# Altium schematic symbol library 08053C472K4Z2A.SchLib: 2 symbols
Pins are listed as number, name and electrical type; pins without a type are passive.

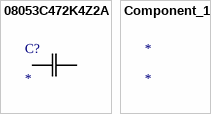
[diagram p0: symbols 08053C472K4Z2A to Component_1]

## 08053C472K4Z2A
designator C?
No Description Available; Mfr_Name: KYOCERA AVX
footprint CAP_08051A0R8CAT2A_AVX
pins: 1, 2

## Component_1
designator *